# Altium integrated library Video.IntLib: 1 symbol
Pins are listed as number, name and electrical type; pins without a type are passive.

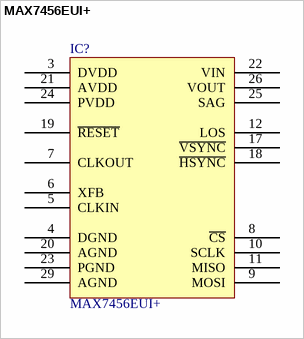
[diagram p0: symbol MAX7456EUI+]

## MAX7456EUI+
designator IC?
IC ON-SCREEN DISPLAY 28-TSSOP; Manufacturer: Maxim Integrated; Part Number: MAX7456EUI+; PartId: 9709; Supplier 1: Digi-Key; Supplier Part Number 1: MAX7456EUI+-ND; ComponentLink1Description: Datasheet; ComponentLink1URL: http://datasheets.maximintegrated.com/en/ds/MAX7456.pdf; ComponentLink2Description: Digi-Key Listing; ComponentLink2URL: http://www.digikey.com/product-detail/en/maxim-integrated/MAX7456EUI%2B/MAX7456EUI%2B-ND/1701658; Device Package: 28-TSSOP (0.173", 4.40mm Width) Exposed Pad; Price: 18.22; Type: OSD (On-Screen Display) Video Generator; Series: -
footprint MAXIM TSSOP28-EP
pins: 3 DVDD "Desc1", 4 DGND "Desc1", 5 CLKIN "Desc1", 6 XFB "Desc1", 7 CLKOUT "Desc1", 8 ~{CS} "Desc1", 9 MOSI "Desc1", 10 SCLK "Desc1", 11 MISO "Desc1", 12 LOS "Desc1", 17 ~{VSYNC} "Desc1", 18 ~{HSYNC} "Desc1", 19 ~{RESET} "Desc1", 20 AGND "Desc1", 21 AVDD "Desc1", 22 VIN "Desc1", 23 PGND "Desc1", 24 PVDD "Desc1", 25 SAG "Desc1", 26 VOUT "Desc1", 29 AGND "Desc1"